# Altium schematic symbol library WE-CBF_0603.SchLib: 1 symbol
Pins are listed as number, name and electrical type; pins without a type are passive.

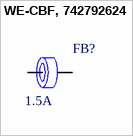
[diagram p0: symbol WE-CBF, 742792624]

## WE-CBF, 742792624
designator FB?, comment RatedCurrent: 1.5A  (hidden comment: 742792624)
Ferrite Bead 180ohm 0603 1.5A; Manufacturer: Wurth Elektronik; Value: 180Ω; Type: High Current; PublishedDate: Aug 2016; ComponentLink1Description: Manufacturer; ComponentLink1URL: http://www.we-online.de; ComponentLink2Description: Datasheet; ComponentLink2URL: http://katalog.we-online.de/pbs/datasheet/742792624.pdf; Manufacturer Part Number: 742792624; Size: 0603
footprint WE-CBF_0603_High Current
pins: 1, 2